# EAGLE library part FTSH-105-01-L-DV-K-P-TR (library FTSH-105-01-L-DV-K-P-TR)
Samtec, FTSH, 10 Way, 2 Row, Vertical PCB Header Source: Datasheet <http://suddendocs.samtec.com/prints/ftsh-1xx-xx-xxx-dv-xxx-xxx-mkt.pdf>
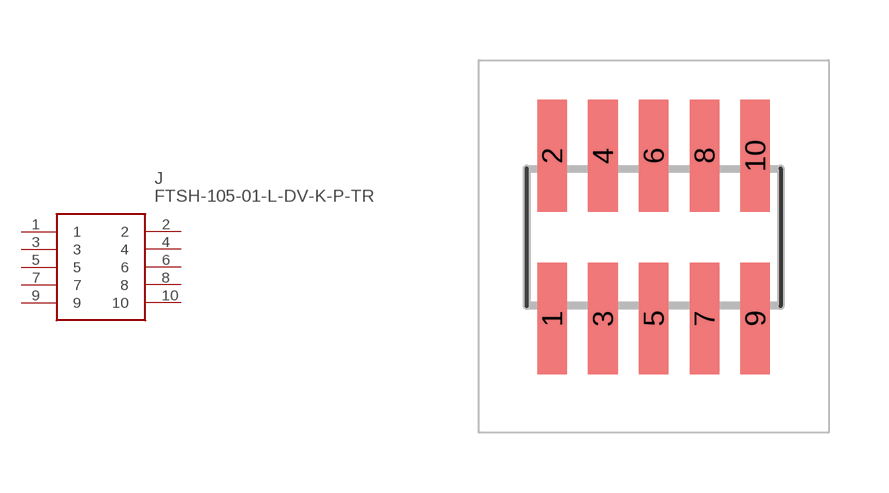
[diagram p0: symbol with the pads of FTSH-105-XX-YYY-DV-K-P-TR; footprint FTSH-105-XX-YYY-DV-K-P-TR]

Designator prefix J

## FTSH-105-01-L-DV-K-P-TR (Arrow_Part_Number: FTSH-105-01-L-DV-K-P-TR; Arrow_Price-Stock: https://www.arrow.com/en/products/ftsh-105-01-l-dv-k-p-tr/samtec?utm_currency=USD&region=europe; Description: Samtec, FTSH, 10 Way, 2 Row, Vertical PCB Header; Height: mm; Manufacturer_Name: SAMTEC; Manufacturer_Part_Number: FTSH-105-01-L-DV-K-P-TR; Mouser_Part_Number: 200-FTSH10501LDVKPTR; Mouser_Price-Stock: https://www.mouser.co.uk/ProductDetail/Samtec/FTSH-105-01-L-DV-K-P-TR?qs=fnpEE5GccuMUjCRgxv4voQ%3D%3D)  [FTSH-105-XX-YYY-DV-K-P-TR]
1  1
2  2
3  3
4  4
5  5
6  6
7  7
8  8
9  9
10  10

## Footprint FTSH-105-XX-YYY-DV-K-P-TR (pad centres in mm)
FTSH-105-XX-YYY-DV-K-P-TR
smd 0.74 x 2.79: 1 -2.54,-2.035; 2 -2.54,2.035; 3 -1.27,-2.035; 4 -1.27,2.035; 5 0,-2.035; 6 0,2.035; 7 1.27,-2.035; 8 1.27,2.035; 9 2.54,-2.035; 10 2.54,2.035